# EAGLE library part RESISTOR_ARRAY_10 (library a3640_edu_v0.1)
RESISTOR ARRAY 10 PINS
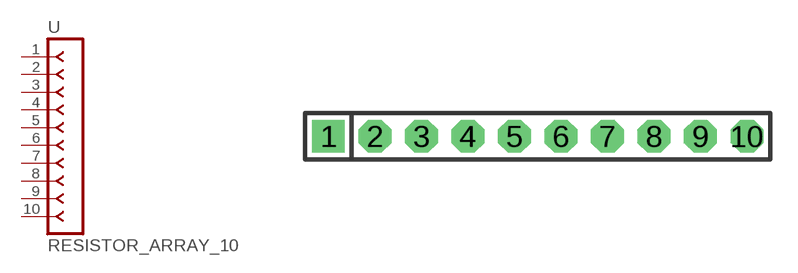
[diagram p10: symbol with the pads of RESISTOR_ARRAY_10; footprint RESISTOR_ARRAY_10]

Designator prefix -

## RESISTOR_ARRAY_10  [RESISTOR_ARRAY_10]
1  1  pas
2  2  pas
3  3  pas
4  4  pas
5  5  pas
6  6  pas
7  7  pas
8  8  pas
9  9  pas
10  10  pas

## Footprint RESISTOR_ARRAY_10 (pad centres in mm)
drill 0.813 pad 1.778 square: 1 -11.43,0
drill 0.813 pad 1.778 octagon: 2 -8.89,0; 3 -6.35,0; 4 -3.81,0; 5 -1.27,0; 6 1.27,0; 7 3.81,0; 8 6.35,0; 9 8.89,0; 10 11.43,0